# Altium schematic symbol library LT4356-1.SchLib: 1 symbol
Pins are listed as number, name and electrical type; pins without a type are passive.

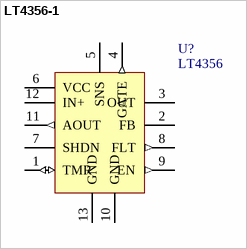
[diagram p0: symbol LT4356-1]

## LT4356-1
designator U?, comment LT4356
Overvoltage Protection Regulator and Inrush Limiter; Part Field 1: Overvoltage protection; Part Field 2: 80V,-40 to 85C; Part Field 3: DFN-12; Part Field 4: Linear Technology; Part Field 5: LT4356IDE-1; Part Field 6: CMW#; Part Field 7: $3.39
footprint DFN-12
pins: 1 TMR (io), 2 FB, 3 OUT, 4 GATE (out), 5 SNS, 6 VCC, 7 SHDN, 8 FLT (out), 9 EN (out), 10 GND, 11 AOUT (out), 12 IN+, 13 GND
2 alternate drawings of the same symbol